# Altium schematic symbol library ATmega328AU.SchLib: 1 symbol
Pins are listed as number, name and electrical type; pins without a type are passive.

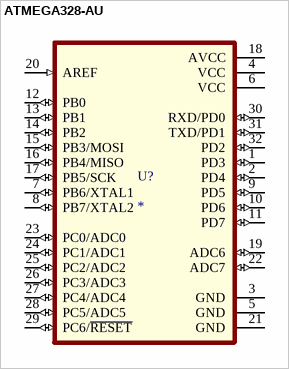
[diagram p0: symbol ATMEGA328-AU]

## ATMEGA328-AU
designator U?
AVR 20MHz TQFP-32(7x7) Microcontrollers (MCU/MPU/SOC) ROHS; Manufacturer: Microchip Tech; Manufacturer Part: ATMEGA328-AU; Pin: 32; CPU Core: AVR; Package: TQFP-32; ComponentLink1Description: Datasheet; ComponentLink1URL: https://ww1.microchip.com/downloads/en/DeviceDoc/Atmel-7810-Automotive-Microcontrollers-ATmega328P_Datasheet.pdf
footprint TQFP-32
pins: 1 PD3 (io), 2 PD4 (io), 3 GND (power), 4 VCC (power), 5 GND (power), 6 VCC (power), 7 PB6/XTAL1 (io), 8 PB7/XTAL2 (io), 9 PD5 (io), 10 PD6 (io), 11 PD7 (io), 12 PB0 (io), 13 PB1 (io), 14 PB2 (io), 15 PB3/MOSI (io), 16 PB4/MISO (io), 17 PB5/SCK (io), 18 AVCC (power), 19 ADC6 (io), 20 AREF (in), 21 GND (power), 22 ADC7 (io), 23 PC0/ADC0 (io), 24 PC1/ADC1 (io), 25 PC2/ADC2 (io), 26 PC3/ADC3 (io), 27 PC4/ADC4 (io), 28 PC5/ADC5 (io), 29 PC6/~{RESET} (io), 30 RXD/PD0 (io), 31 TXD/PD1 (io), 32 PD2 (io)